# Altium schematic symbol library schmaticSMDv1.SchLib: 62 symbols (part 3 of 3)
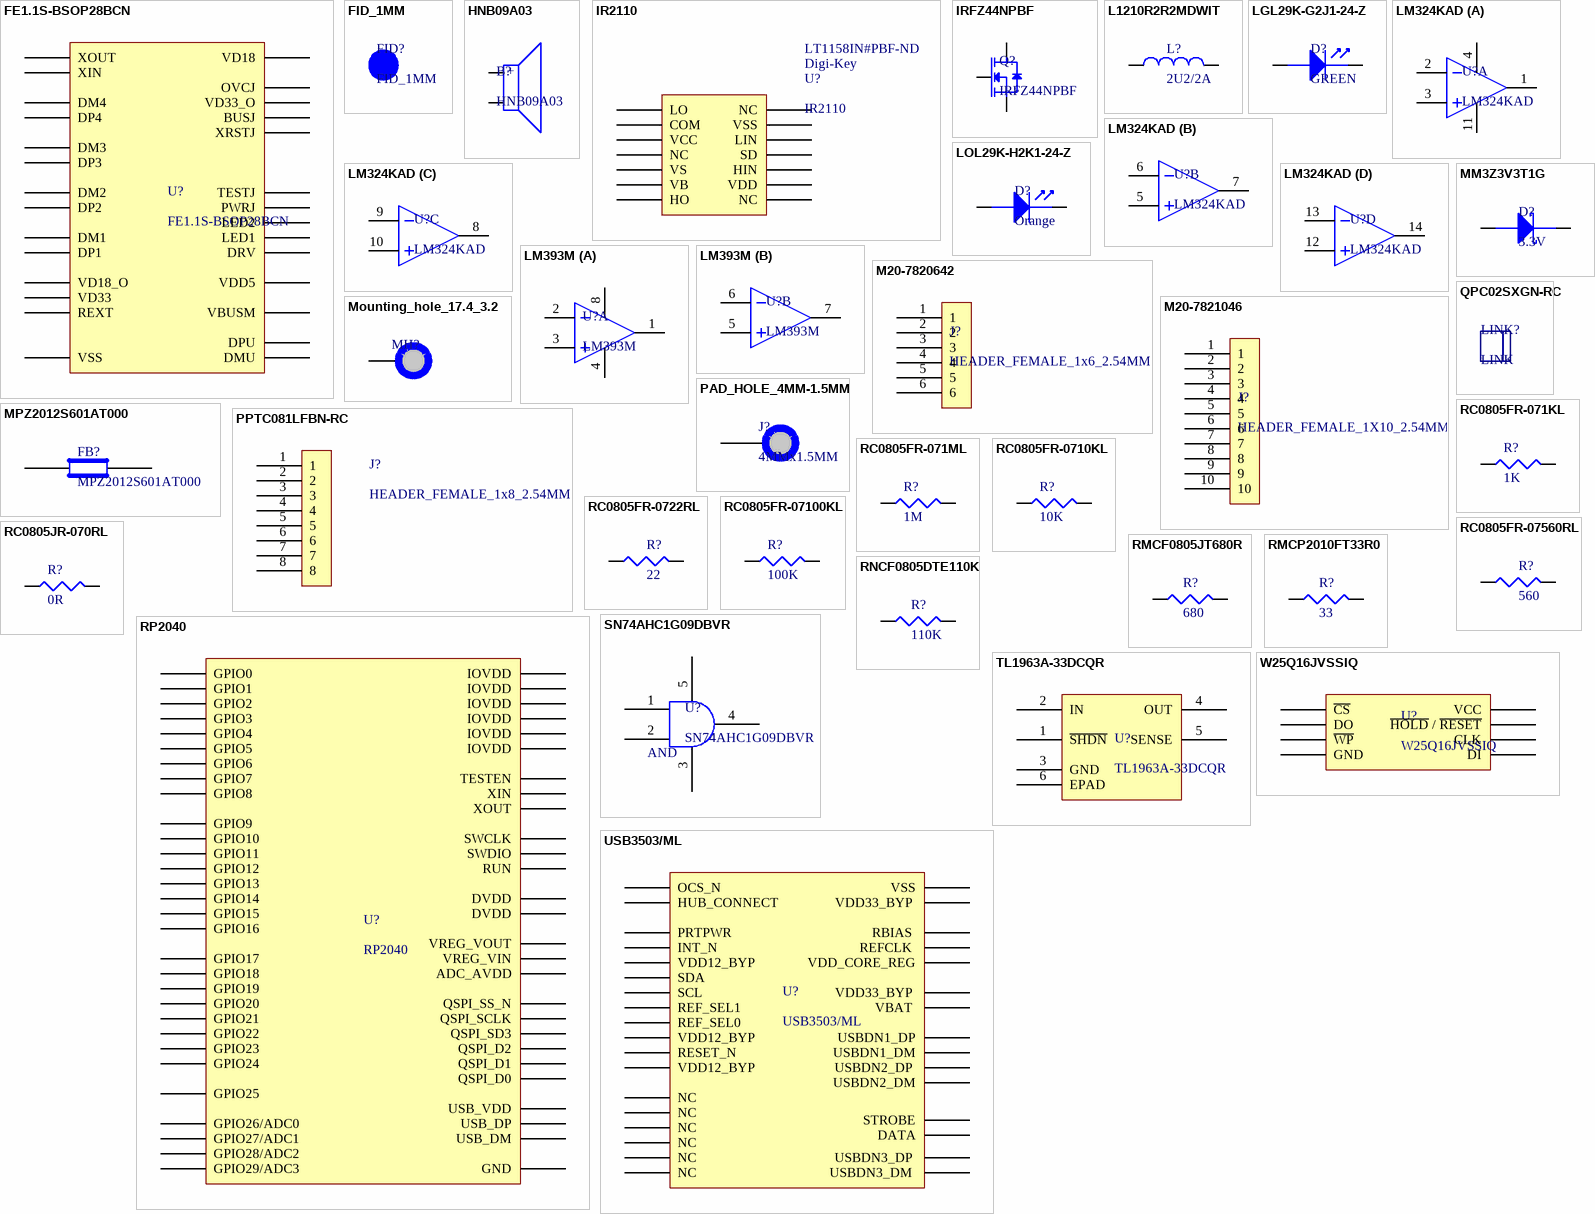
[diagram p3: symbols FE1.1S-BSOP28BCN to W25Q16JVSSIQ]

## SN74AHC1G09DBVR
designator U?
Single 2-input, 2-V to 5.5-V AND gate with open-drain outputs 5-SOT-23 -55 to 125; Manufacturer: Texas Instruments; Min Supply Voltage: 2V; Max Supply Voltage: 5.5V; Quiescent Current: 1uA; Number of Inputs: 2; Propagation Delay: 7.5ns; Output Current: 25mA; Number of Circuits: 1; Low Level Output Current: 8mA; Supplier 1: Digi-Key; Manufacturer Part Number: SN74AHC1G09DBVR; RoHS: Yes; Category: Logic Gates; Pricing 1: 1=0.48000, 10=0.35600, 25=0.31160, 100=0.20170, 250=0.16696, 500=0.13356, 1000=0.10240 (USD); Mount: Surface Mount; Case/Package: SOT-23; Number of Pins: 5; Contact Plating: Tin,Matte; Min Operating Temperature: -55°C; Max Operating Temperature: 125°C; Logic Function: AND GATE; Package Quantity: 3000; Packaging: Tape and Reel; Number of Gates: 1; Number of Elements: 1; Number of Bits: 1; Series: 74AHC; Technology: CMOS; Output Voltage: 5.5V; Number of Outputs: 1; Radiation Hardening: No; REACH SVHC: No SVHC; Lead Free: Lead Free; RoHS Compliant: Yes; ComponentLink1URL: https://datasheet.ciiva.com/1864/sn74ahc1g09-1864410.pdf?src-supplier=Digi-Key; ComponentLink1Description: https://datasheet.ciiva.com/1864/sn74ahc1g09-1864410.pdf?src-supplier=Digi-Key; ComponentLink2URL: https://datasheet.ciiva.com/1864/sn74ahc1g09-1864411.pdf?src-supplier=Digi-Key; ComponentLink2Description: https://datasheet.ciiva.com/1864/sn74ahc1g09-1864411.pdf?src-supplier=Digi-Key; ComponentLink3URL: https://datasheet.ciiva.com/1864/sn74ahc1g09-1864412.pdf?src-supplier=Digi-Key; ComponentLink3Description: https://datasheet.ciiva.com/1864/sn74ahc1g09-1864412.pdf?src-supplier=Digi-Key; Supplier Part Number 1: 296-29202-1-ND
footprint DBV_SOT_5
pins: 1, 2, 3, 4, 5
text: AND

## TL1963A-33DCQR
designator U?
LDO Regulator Pos 3.3V 1.5A 6-Pin(5+Tab) SOT-223 T/R; Manufacturer: Texas Instruments; Dropout Voltage: 340mV; Number of Outputs: 1; Max Input Voltage: 20V; Min Input Voltage: 2.1V; Min Current Limit: 1.6A; Input Bias Current: 1mA; Polarity: Positive; Accuracy: 3%; Output Type: Fixed; Supplier 1: Digi-Key; Manufacturer Part Number: TL1963A-33DCQR; RoHS: Yes; Category: Voltage Regulators - Linear; Pricing 1: 1=3.62000, 10=3.25200, 25=3.07440, 100=2.66440, 250=2.52772, 500=2.26812, 1000=2.25575 (USD); Case/Package: SOT-223; Number of Pins: 6; Contact Plating: Gold; Min Operating Temperature: -40°C; Max Operating Temperature: 125°C; Package Quantity: 1; Packaging: Tape and Reel; Output Voltage: 3.3V; Output Current: 1.5A; Max Output Current: 1.5A; Number of Regulators: 1; Quiescent Current: 1mA; Max Output Voltage: 3.3V; Min Output Voltage: 3.3V; Series: -; Radiation Hardening: No; Lead Free: Lead Free; RoHS Compliant: Yes; ComponentLink1URL: https://datasheet.ciiva.com/2046/tl1963a-2046161.pdf?src-supplier=Digi-Key; ComponentLink1Description: https://datasheet.ciiva.com/2046/tl1963a-2046161.pdf?src-supplier=Digi-Key; ComponentLink2URL: https://datasheet.ciiva.com/2046/tl1963a-2046162.pdf?src-supplier=Digi-Key; ComponentLink2Description: https://datasheet.ciiva.com/2046/tl1963a-2046162.pdf?src-supplier=Digi-Key; ComponentLink3URL: https://datasheet.ciiva.com/2046/tl1963a-2046163.pdf?src-supplier=Digi-Key; ComponentLink3Description: https://datasheet.ciiva.com/2046/tl1963a-2046163.pdf?src-supplier=Digi-Key; ComponentLink4URL: https://datasheet.ciiva.com/26176/tl1963a-25-26176569.pdf?src-supplier=Avnet+Europe; ComponentLink4Description: https://datasheet.ciiva.com/26176/tl1963a-25-26176569.pdf?src-supplier=Avnet+Europe; Supplier Part Number 1: 296-24534-6-ND
footprint TL1963A-33DCQR
pins: 1 ~{SHDN}, 2 IN, 3 GND, 4 OUT, 5 SENSE, 6 EPAD

## USB3503/ML
designator U?
Low Speed/Full Speed/High Speed Hub Controller USB 2.0 3.3V/5V Tray 32-Pin SQFN EP; Manufacturer: Microchip; Interface: USB,I2C; Number of Transceivers: 3; ESD Protection: Yes; Operating Supply Voltage: 3.3V; Operating Supply Current: 24mA; Max Supply Voltage: 3.6V; Min Supply Voltage: 2.8V; Supplier 1: Arrow Electronics; Manufacturer Part Number: USB3503/ML; RoHS: Yes; Category: USB Interface ICs; Stock 1: 95; Pricing 1: 1=2.73900 (USD); Mount: Surface Mount; Case/Package: QFN; Number of Pins: 32; Min Operating Temperature: 0°C; Max Operating Temperature: 70°C; Package Quantity: 490; Packaging: Tray; Length: 5.1mm; Width: 5.1mm; Height: 0.95mm; Lead Free: Lead Free; RoHS Compliant: Yes; ComponentLink1URL: http://www.mouser.com/ds/2/268/00001584A-337089.pdf?src-supplier=Mouser; ComponentLink1Description: http://www.mouser.com/ds/2/268/00001584A-337089.pdf?src-supplier=Mouser; ComponentLink2URL: http://www.alliedelec.com/images/products/datasheets/bm/Microchip/70470333.pdf?src-supplier=Allied+Electronics; ComponentLink2Description: http://www.alliedelec.com/images/products/datasheets/bm/Microchip/70470333.pdf?src-supplier=Allied+Electronics; ComponentLink3URL: http://uk.rs-online.com/webdocs/1344/0900766b81344dc7.pdf?src-supplier=RSComponents; ComponentLink3Description: http://uk.rs-online.com/webdocs/1344/0900766b81344dc7.pdf?src-supplier=RSComponents; ComponentLink4URL: http://ww1.microchip.com/downloads/en/DeviceDoc/00001584.pdf?src-supplier=Avnet; ComponentLink4Description: http://ww1.microchip.com/downloads/en/DeviceDoc/00001584.pdf?src-supplier=Avnet; ComponentLink5URL: http://ww1.microchip.com/downloads/en/DeviceDoc/3503db.pdf?src-supplier=Digi-Key; ComponentLink5Description: http://ww1.microchip.com/downloads/en/DeviceDoc/3503db.pdf?src-supplier=Digi-Key; Supplier Part Number 1: USB3503/ML
footprint QFN32
pins: 1 OCS_N, 2 HUB_CONNECT, 3 NC, 4 PRTPWR, 5 INT_N, 6 VDD12_BYP , 7 SDA, 8 SCL , 9 REF_SEL1 , 10 REF_SEL0 , 11 VDD12_BYP , 12 RESET_N, 13 VDD12_BYP , 14 NC, 15 DATA, 16 STROBE, 17 NC, 18 NC, 19 USBDN3_DM , 20 USBDN3_DP , 21 USBDN2_DM, 22 USBDN2_DP , 23 USBDN1_DM, 24 USBDN1_DP, 25 VBAT , 26 VDD33_BYP , 27 NC, 28 VDD_CORE_REG, 29 REFCLK , 30 RBIAS , 31 NC, 32 VDD33_BYP , 33 VSS

## W25Q16JVSSIQ
designator U?
ICFLASH16MBIT133MHZ8SOIC; Manufacturer: Winbond; Memory Type: Non-Volatile,FLASH; Memory Size: 16Mb; Frequency: 133MHz; Supplier 1: Arrow Electronics; Manufacturer Part Number: W25Q16JVSSIQ; RoHS: Yes; Category: Flash; Stock 1: 2303; Pricing 1: 1=0.56810, 10=0.54950, 25=0.52050, 50=0.51750, 100=0.46070, 250=0.45500, 500=0.44820, 1000=0.43640, 5000=0.38170 (USD); Mount: Surface Mount; Case/Package: SOIC; Min Operating Temperature: -40°C; Max Operating Temperature: 85°C; Packaging: Rail/Tube; RoHS Compliant: Yes; ComponentLink1URL: http://www.winbond.com/resource-files/w25q16jv%20spi%20revg%2003222018%20plus.pdf?src-supplier=Digi-Key; ComponentLink1Description: http://www.winbond.com/resource-files/w25q16jv%20spi%20revg%2003222018%20plus.pdf?src-supplier=Digi-Key; Supplier Part Number 1: W25Q16JVSSIQ
footprint SOIC-8
pins: 1 ~{CS}, 2 DO, 3 ~{WP}, 4 GND, 5 DI, 6 CLK, 7 ~{HOLD} / ~{RESET}, 8 VCC